# Altium footprint library Package_SO_J-Lead.PcbLib: 1 footprints
Each footprint in its own frame and in the unit in brackets; x right, y up, seen from the top. Pads: shape width x height; smd on the part's side, far side on the other; paste and mask are expansions set on the pad; w line width, h text height; cw(c..) or ccw(c..) is an arc to the next point about the centre after c.
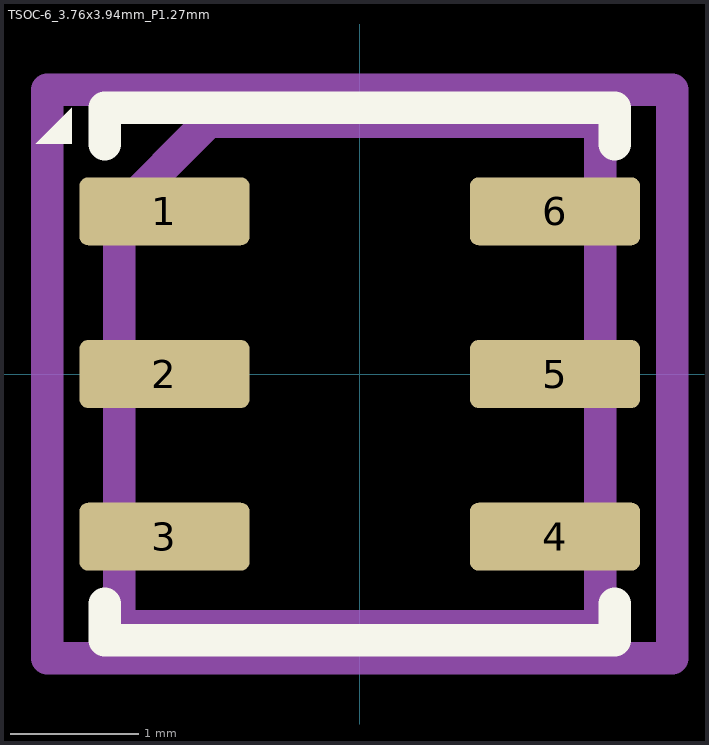
[diagram p0: the footprint, top view; thin cyan lines are the x and y axes]

## TSOC-6_3.76x3.94mm_P1.27mm [mm]
pads (6):
  rrect25% 1.33x0.53 smd: 1(-1.525,1.27) 2(-1.525,0) 3(-1.525,-1.27) 4(1.525,-1.27) 5(1.525,0) 6(1.525,1.27)
F.SilkS:
  region: -2.25,1.8 -2.53,1.8 -2.25,2.08
  lines w0.254: -1.99,-1.795 -1.99,-2.08 1.99,-2.08 1.99,-1.795 ; -1.99,1.795 -1.99,2.08 1.99,2.08 1.99,1.795
F.Fab:
  lines w0.254: -1.88,-1.97 -1.88,1.27 -1.18,1.97 1.88,1.97 1.88,-1.97 -1.88,-1.97
  text "'.Designator'" at -2.855,-0.61 h0.7
F.CrtYd:
  lines w0.254: -2.44,-2.22 -2.44,2.22 2.44,2.22 2.44,-2.22 -2.44,-2.22